# Altium footprint library MF_MiscLib.PcbLib: 108 footprints (part 4 of 7)
Each footprint in its own frame and in the unit in brackets; x right, y up, seen from the top. Pads: shape width x height; smd on the part's side, far side on the other; paste and mask are expansions set on the pad; w line width, h text height; cw(c..) or ccw(c..) is an arc to the next point about the centre after c.
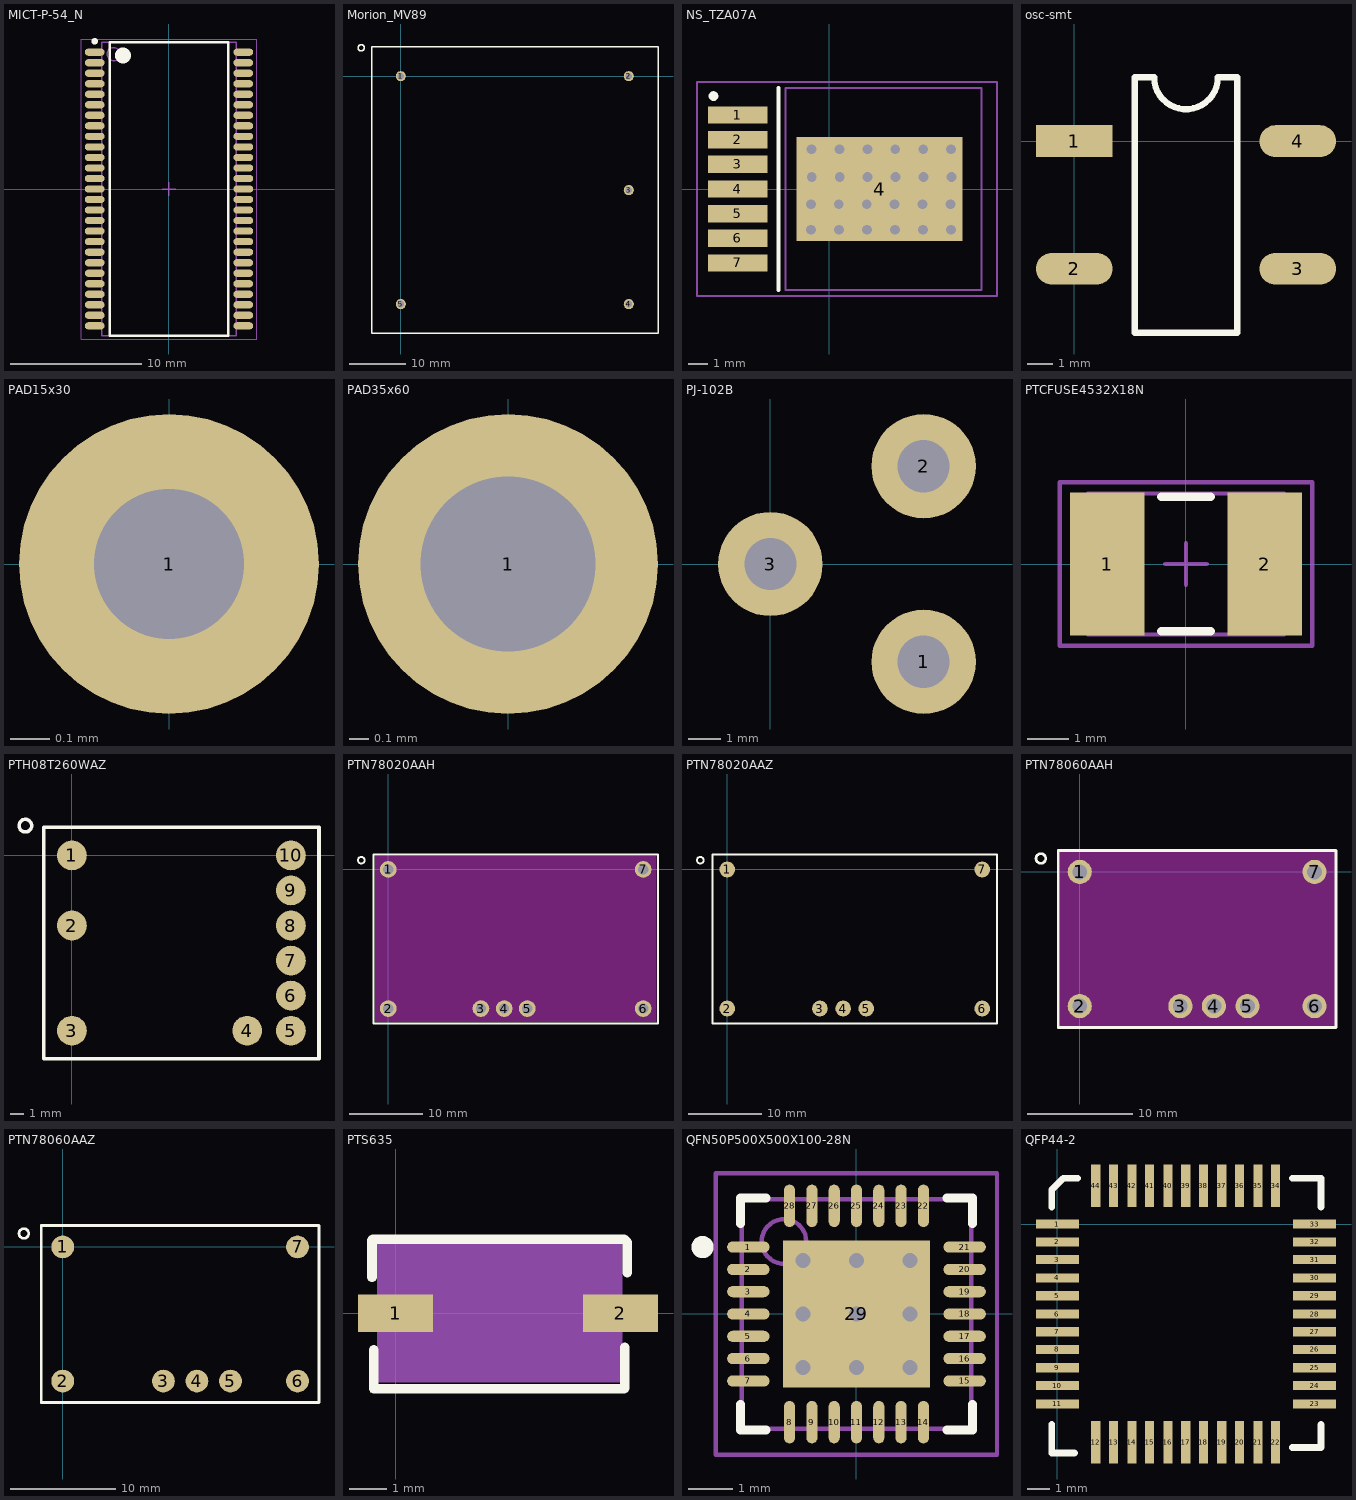
[diagram p3: the footprints below, top view; thin cyan lines are the x and y axes]

## MICT-P-54_N [mm] "SOP, 54-Leads, Body 22.22x10.16mm, Pitch 0.8mm, IPC Medium Density"
pads (54):
  oval 1.5x0.55 smd: 1(-5.65,10.4) 2(-5.65,9.6) 3(-5.65,8.8) 4(-5.65,8) 5(-5.65,7.2) 6(-5.65,6.4) 7(-5.65,5.6) 8(-5.65,4.8) 9(-5.65,4) 10(-5.65,3.2) 11(-5.65,2.4) 12(-5.65,1.6) 13(-5.65,0.8) 14(-5.65,0) 15(-5.65,-0.8) 16(-5.65,-1.6) 17(-5.65,-2.4) 18(-5.65,-3.2) 19(-5.65,-4) 20(-5.65,-4.8) 21(-5.65,-5.6) 22(-5.65,-6.4) 23(-5.65,-7.2) 24(-5.65,-8) 25(-5.65,-8.8) 26(-5.65,-9.6) 27(-5.65,-10.4) 28(5.65,-10.4) 29(5.65,-9.6) 30(5.65,-8.8) 31(5.65,-8) 32(5.65,-7.2) 33(5.65,-6.4) 34(5.65,-5.6) 35(5.65,-4.8) 36(5.65,-4) 37(5.65,-3.2) 38(5.65,-2.4) 39(5.65,-1.6) 40(5.65,-0.8) 41(5.65,0) 42(5.65,0.8) 43(5.65,1.6) 44(5.65,2.4) 45(5.65,3.2) 46(5.65,4) 47(5.65,4.8) 48(5.65,5.6) 49(5.65,6.4) 50(5.65,7.2) 51(5.65,8) 52(5.65,8.8) 53(5.65,9.6) 54(5.65,10.4)
Top Overlay:
  circle w0.6: c-3.5,10.15 r0.3
  circle w0.25: c-5.65,11.225 r0.125
  lines w0.2: -4.5,-11.15 4.5,-11.15 4.5,11.15 -4.5,11.15 -4.5,-11.15
Mechanical 13:
  circle w0.1: c-4.2,10.25 r0.5
  lines w0.1: -5.1,-11.15 5.1,-11.15 5.1,11.15 -5.1,11.15 -5.1,-11.15
Mechanical 15:
  lines w0.05: -6.65,-11.4 6.65,-11.4 6.65,11.4 -6.65,11.4 -6.65,-11.4
  lines w0.1: -0.5,0 0.5,0 ; 0,-0.5 0,0.5
3D body: height 0.05, standoff 0, extent -5.1,-11.15 5.1,11.15

## Morion_MV89 [mm]
height 38
pads (5):
  round 1.8 hole 1.2: 1(0,0) 2(40.6,0) 3(40.6,-20.3) 4(40.6,-40.6) 5(0,-40.6)
Top Overlay:
  circle w0.254: c-7.075,5.05 r0.553
  lines w0.254: -5.2,-45.8 45.8,-45.8 45.8,5.2 -5.2,5.2 -5.2,-45.8
Bottom Overlay:
  text "GND" at 2.15,-3.8 h1.52
  text "+12" at 2.2,-38.95 h1.52
  text "EFC" at 41.725,-38.8 h1.52
  text "Ref" at 41.45,-18.85 h1.52
  text "RF out" at 42.65,-3.2 h1.52
3D body: height 38, standoff 0, extent -5.199,-45.799 45.799,5.199

## NS_TZA07A [mm] "D2-PAK, 8-Pads, Body 10.1x10.4mm (max), IPC Medium Density"
height 4.67
pads (8):
  rect 3.06x0.89 smd: 1(-4.705,3.81) 2(-4.705,2.54) 3(-4.705,1.27) 4(-4.705,0) 5(-4.705,-1.27) 6(-4.705,-2.54) 7(-4.705,-3.81)
  rect 8.54x5.35 all layers, no hole: 4(2.6,0)
via -0.905,2.048 diameter 1.016 hole 0.508
via 0.534,2.048 diameter 1.016 hole 0.508
via 1.972,2.048 diameter 1.016 hole 0.508
via 3.411,2.048 diameter 1.016 hole 0.508
via 4.849,2.048 diameter 1.016 hole 0.508
via 6.288,2.048 diameter 1.016 hole 0.508
via 6.303,0.609 diameter 1.016 hole 0.508
via 4.864,0.609 diameter 1.016 hole 0.508
via 3.426,0.609 diameter 1.016 hole 0.508
via 1.987,0.609 diameter 1.016 hole 0.508
via 0.549,0.609 diameter 1.016 hole 0.508
via -0.89,0.609 diameter 1.016 hole 0.508
via 6.257,-0.784 diameter 1.016 hole 0.508
via 4.818,-0.784 diameter 1.016 hole 0.508
via 3.38,-0.784 diameter 1.016 hole 0.508
via 1.941,-0.784 diameter 1.016 hole 0.508
via 0.503,-0.784 diameter 1.016 hole 0.508
via -0.936,-0.784 diameter 1.016 hole 0.508
via 6.273,-2.102 diameter 1.016 hole 0.508
via 4.834,-2.102 diameter 1.016 hole 0.508
via 3.396,-2.102 diameter 1.016 hole 0.508
via 1.957,-2.102 diameter 1.016 hole 0.508
via 0.519,-2.102 diameter 1.016 hole 0.508
via -0.92,-2.102 diameter 1.016 hole 0.508
Top Overlay:
  circle w0.25: c-5.95,4.785 r0.125
  lines w0.2: -2.6,-5.2 -2.6,5.2
Mechanical 13:
  lines w0.1: -2.25,-5.2 7.85,-5.2 7.85,5.2 -2.25,5.2 -2.25,-5.2
Mechanical 15:
  lines w0.1: -0.5,0 0.5,0 ; 0,-0.5 0,0.5 ; -6.8,-5.5 8.65,-5.5 8.65,5.5 -6.8,5.5 -6.8,-5.5
3D body: height 4.67, standoff 0.4, extent -2.25,-5.2 7.85,5.2

## osc-smt [mil]
pads (4):
  rect 120x50 smd: 1(0,0)
  oval 120x50 smd: 2(0,-200) 3(350,-200) 4(350,0)
Top Overlay:
  lines w10: 95,-300 95,100 125,100 ccw(c175,100) 225,100 255,100 255,-300 95,-300

## PAD15x30 [mil] "15 mil via with 30 mil pad"
pads (1):
  round 30 hole 15: 1(0,0)

## PAD35x60 [mil] "35mil Via with 60 mil pad"
pads (1):
  round 60 hole 35: 1(0,0)

## PJ-102B [mm] "Power coaxial jack 2.5mm Pin, 5.5mm barrel"
height 11
pads (3):
  round 3.2 hole 1.6: 1(4.7,-3) 2(4.7,3) 3(0,0)
3D body: height 11.5, standoff -3, extent -0.31,-3.72 9.09,10.68

## PTCFUSE4532X18N [mm] "PTC Fuse, 2-Leads, Body 4.5x3.2mm, IPC Medium Density"
height 1.8
pads (2):
  rect 1.8x3.45 smd: 1(-1.9,0) 2(1.9,0)
Top Overlay:
  lines w0.2: -0.6,-1.625 0.6,-1.625 ; -0.6,1.625 0.6,1.625
Mechanical 13:
  lines w0.1: -2.365,-1.705 -2.365,1.705 2.365,1.705 2.365,-1.705 -2.365,-1.705
Mechanical 15:
  lines w0.1: -0.5,0 0.5,0 ; 0,-0.5 0,0.5 ; -3.05,-1.975 -3.05,1.975 3.05,1.975 3.05,-1.975 -3.05,-1.975
3D body: height 1.8, standoff 0, extent -2.365,-1.705 2.365,1.705

## PTH08T260WAZ [mil]
height 325
pads (10):
  round 85 smd: 1(0,0) 2(0,-200) 3(0,-500) 4(500,-500) 5(625,-500) 6(625,-400) 7(625,-300) 8(625,-200) 9(625,-100) 10(625,0)
Top Overlay:
  circle w10: c-133.03,85 r18.03
  lines w10: -80,-580 705,-580 705,80 -80,80 -80,-580
3D body: height 325, standoff 10, extent -79.98,-579.98 704.98,79.98

## PTN78020AAH [mil]
height 354
pads (7):
  round 90 hole 55: 1(0,0) 2(0,-750) 3(500,-750) 4(625,-750) 5(750,-750) 6(1375,-750) 7(1375,0)
Top Overlay:
  circle w10: c-145,50 r18.03
  lines w10: -80,-830 -80,80 1455,80 1455,-830 -80,-830
Keep-Out Layer:
  region: -70,-820 -70,70 1445,70 1445,-820
3D body: height 354, standoff 10, extent -79.98,-829.98 1454.98,79.98

## PTN78020AAZ [mil]
height 354
pads (7):
  round 85 smd: 1(0,0) 2(0,-750) 3(500,-750) 4(625,-750) 5(750,-750) 6(1375,-750) 7(1375,0)
Top Overlay:
  circle w10: c-145,50 r18.03
  lines w10: -80,-830 1455,-830 1455,80 -80,80 -80,-830
3D body: height 354, standoff 10, extent -79.98,-829.98 1454.98,79.98

## PTN78060AAH [mil]
height 354
pads (7):
  round 90 hole 55: 1(0,0) 2(0,-500) 3(375,-500) 4(500,-500) 5(625,-500) 6(875,-500) 7(875,0)
Top Overlay:
  circle w10: c-145,50 r18.03
  lines w10: -80,-580 -80,80 955,80 955,-580 -80,-580
Keep-Out Layer:
  region: -75,-575 -75,75 950,75 950,-575
3D body: height 354, standoff 10, extent -79.98,-579.98 954.98,79.98

## PTN78060AAZ [mil]
height 354
pads (7):
  round 85 smd: 1(0,0) 2(0,-500) 3(375,-500) 4(500,-500) 5(625,-500) 6(875,-500) 7(875,0)
Top Overlay:
  circle w10: c-145,50 r18.03
  lines w10: -80,-580 -80,80 955,80 955,-580 -80,-580
3D body: height 354, standoff 10, extent -79.98,-579.98 954.98,79.98

## PTS635 [mm] "Pushbutton switch 6x3.5mm"
height 2.5
pads (2):
  rect 2x1 smd: 1(0,0) 2(6,0)
Top Overlay:
  lines w0.254: -0.627,0.955 -0.627,1.95 -0.6,1.977 6.098,1.977 6.18,1.895 6.18,1.073 ; -0.582,-2.018 -0.581,-2.019 ; -0.581,-0.979 -0.581,-2.019 ; 6.117,-0.907 6.117,-1.181 6.117,-1.728 6.117,-2.001 6.099,-2.019 -0.581,-2.019
Mechanical 1:
  rectangle: -0.5,-1.85 6.05,1.85

## QFN50P500X500X100-28N [mm] "QFN, 28-Leads, Body 5.2x5.2mm (max), Pitch 0.50mm, IPC Medium Density"
height 1
pads (29):
  oval 0.95x0.25 smd: 1(-2.425,1.5) 2(-2.425,1) 3(-2.425,0.5) 4(-2.425,0) 5(-2.425,-0.5) 6(-2.425,-1) 7(-2.425,-1.5) 15(2.425,-1.5) 16(2.425,-1) 17(2.425,-0.5) 18(2.425,0) 19(2.425,0.5) 20(2.425,1) 21(2.425,1.5)
  oval 0.25x0.95 smd: 8(-1.5,-2.425) 9(-1,-2.425) 10(-0.5,-2.425) 11(0,-2.425) 12(0.5,-2.425) 13(1,-2.425) 14(1.5,-2.425) 22(1.5,2.425) 23(1,2.425) 24(0.5,2.425) 25(0,2.425) 26(-0.5,2.425) 27(-1,2.425) 28(-1.5,2.425)
  rect 3.3x3.3 smd: 29(0,0)
via 1.2,-1.2 diameter 0.66 hole 0.33
via 0,-1.2 diameter 0.66 hole 0.33
via -1.2,-1.2 diameter 0.66 hole 0.33
via 1.2,0 diameter 0.66 hole 0.33
via 0,0 diameter 0.66 hole 0.33
via -1.2,0 diameter 0.66 hole 0.33
via 1.2,1.2 diameter 0.66 hole 0.33
via 0,1.2 diameter 0.66 hole 0.33
via -1.2,1.2 diameter 0.66 hole 0.33
Top Overlay:
  circle w0.25: c-3.45,1.5 r0.125
  lines w0.2: -2.6,-2.025 -2.6,-2.6 -2.025,-2.6 ; -2.6,2.025 -2.6,2.6 -2.025,2.6 ; 2.025,-2.6 2.6,-2.6 2.6,-2.025 ; 2.025,2.6 2.6,2.6 2.6,2.025
Mechanical 13:
  circle w0.1: c-1.625,1.625 r0.5
  lines w0.1: -2.575,-2.575 2.575,-2.575 2.575,2.575 -2.575,2.575 -2.575,-2.575
Mechanical 15:
  lines w0.1: -0.5,0 0.5,0 ; 0,-0.5 0,0.5 ; -3.15,-3.15 3.15,-3.15 3.15,3.15 -3.15,3.15 -3.15,-3.15
3D body: height 1, standoff 0, extent -2.575,-2.575 2.575,2.575

## QFP44-2 [mil]
pads (44):
  rect 75x16 smd: 1(0,0) 2(0,-31) 3(0,-62) 4(0,-94) 5(0,-125) 6(0,-157) 7(0,-188) 8(0,-219) 9(0,-251) 10(0,-282) 11(0,-314) 23(449,-314) 24(449,-282) 25(449,-251) 26(449,-219) 27(449,-188) 28(449,-157) 29(449,-125) 30(449,-94) 31(449,-62) 32(449,-31) 33(449,0)
  rect 16x75 smd: 12(67,-381) 13(98,-381) 14(130,-381) 15(161,-381) 16(193,-381) 17(224,-381) 18(255,-381) 19(287,-381) 20(318,-381) 21(350,-381) 22(381,-381) 34(381,67) 35(350,67) 36(318,67) 37(287,67) 38(255,67) 39(224,67) 40(193,67) 41(161,67) 42(130,67) 43(98,67) 44(67,67)
Top Overlay:
  lines w12: -10,-350 -10,-400 30,-400 ; -10,30 -10,60 10,80 35,80 ; 410,-390 460,-390 460,-350 ; 410,80 460,80 460,30